# EAGLE library part ATTINY85_ATTINY85 (library Connections)
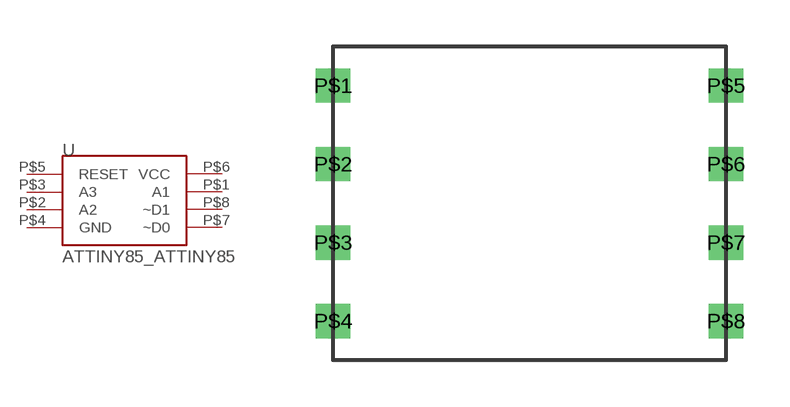
[diagram p1: symbol with the pads of ATTINY85_ATTINY85; footprint ATTINY85_ATTINY85]

Designator prefix -

## ATTINY85_ATTINY85  [ATTINY85_ATTINY85]
P$1  A1
P$2  A2
P$3  A3
P$4  GND
P$5  RESET
P$6  VCC
P$7  ~D0
P$8  ~D1

## Footprint ATTINY85_ATTINY85 (pad centres in mm)
drill 0.6 square: P$1 -7.62,3.81; P$2 -7.62,1.27; P$3 -7.62,-1.27; P$4 -7.62,-3.81; P$5 5.08,3.81; P$6 5.08,1.27; P$7 5.08,-1.27; P$8 5.08,-3.81